# Altium schematic symbol library CPU_Library.SchLib: 4 symbols
Pins are listed as number, name and electrical type; pins without a type are passive.

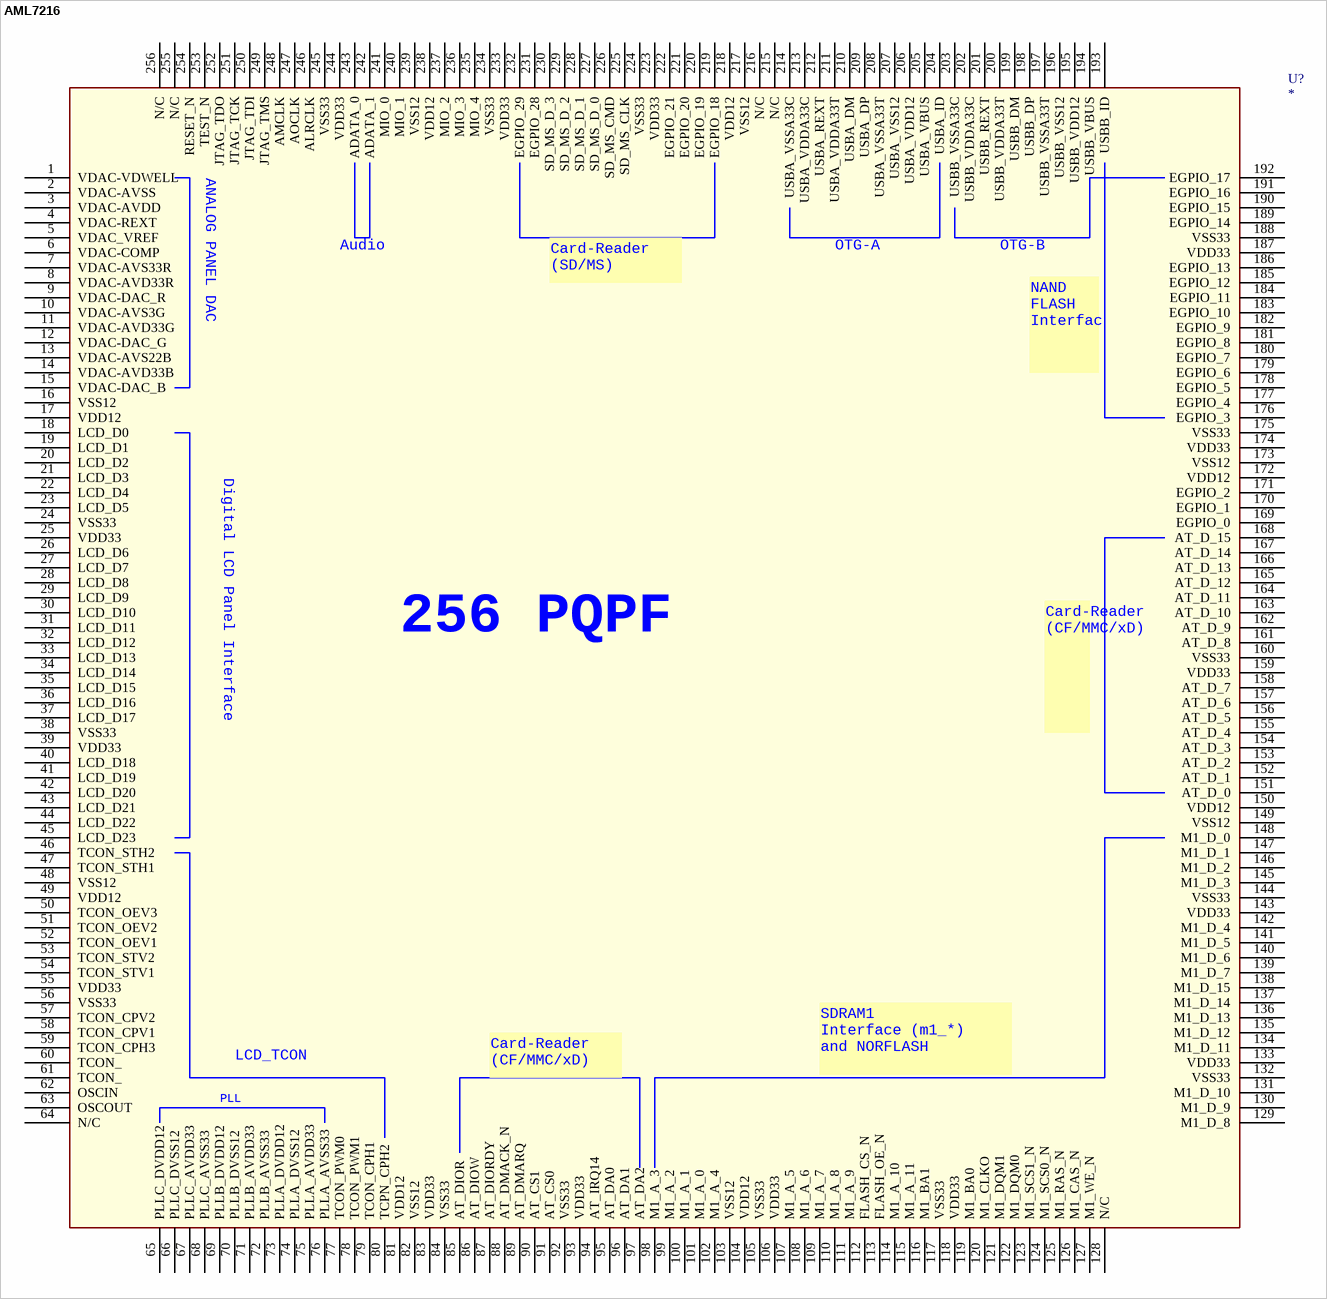
[diagram p0: symbol AML7216]

## AML7216
designator U?
pins: 1 VDAC-VDWELL, 2 VDAC-AVSS, 3 VDAC-AVDD, 4 VDAC-REXT, 5 VDAC_VREF, 6 VDAC-COMP, 7 VDAC-AVS33R, 8 VDAC-AVD33R, 9 VDAC-DAC_R, 10 VDAC-AVS3G, 11 VDAC-AVD33G, 12 VDAC-DAC_G, 13 VDAC-AVS22B, 14 VDAC-AVD33B, 15 VDAC-DAC_B, 16 VSS12 (power), 17 VDD12 (power), 18 LCD_D0, 19 LCD_D1, 20 LCD_D2, 21 LCD_D3, 22 LCD_D4, 23 LCD_D5, 24 VSS33 (power), 25 VDD33 (power), 26 LCD_D6, 27 LCD_D7, 28 LCD_D8, 29 LCD_D9, 30 LCD_D10, 31 LCD_D11, 32 LCD_D12, 33 LCD_D13, 34 LCD_D14, 35 LCD_D15, 36 LCD_D16, 37 LCD_D17, 38 VSS33 (power), 39 VDD33 (power), 40 LCD_D18, 41 LCD_D19, 42 LCD_D20, 43 LCD_D21, 44 LCD_D22, 45 LCD_D23, 46 TCON_STH2, 47 TCON_STH1, 48 VSS12 (power), 49 VDD12 (power), 50 TCON_OEV3, 51 TCON_OEV2, 52 TCON_OEV1, 53 TCON_STV2, 54 TCON_STV1, 55 VDD33 (power), 56 VSS33 (power), 57 TCON_CPV2, 58 TCON_CPV1, 59 TCON_CPH3, 60 TCON_ (power), 61 TCON_ (power), 62 OSCIN, 63 OSCOUT, 64 N/C (power), 65 PLLC_DVDD12, 66 PLLC_DVSS12, 67 PLLC_AVDD33, 68 PLLC_AVSS33, 69 PLLB_DVDD12, 70 PLLB_DVSS12, 71 PLLB_AVDD33, 72 PLLB_AVSS33, 73 PLLA_DVDD12, 74 PLLA_DVSS12, 75 PLLA_AVDD33, 76 PLLA_AVSS33, 77 TCON_PWM0, 78 TCON_PWM1, 79 TCON_CPH1, 80 TCPN_CPH2, 81 VDD12 (power), 82 VSS12 (power), 83 VDD33 (power), 84 VSS33 (power), 85 AT_DIOR, 86 AT_DIOW, 87 AT_DIORDY, 88 AT_DMACK_N, 89 AT_DMARQ, 90 AT_CS1, 91 AT_CS0, 92 VSS33 (power), 93 VDD33 (power), 94 AT_IRQ14, 95 AT_DA0, 96 AT_DA1, 97 AT_DA2, 98 M1_A_3, 99 M1_A_2, 100 M1_A_1, 101 M1_A_0, 102 M1_A_4, 103 VSS12 (power), 104 VDD12 (power), 105 VSS33 (power), 106 VDD33 (power), 107 M1_A_5, 108 M1_A_6, 109 M1_A_7, 110 M1_A_8, 111 M1_A_9, 112 FLASH_CS_N, 113 FLASH_OE_N, 114 M1_A_10, 115 M1_A_11, 116 M1_BA1, 117 VSS33 (power), 118 VDD33 (power), 119 M1_BA0, 120 M1_CLKO, 121 M1_DQM1, 122 M1_DQM0, 123 M1_SCS1_N, 124 M1_SCS0_N, 125 M1_RAS_N, 126 M1_CAS_N, 127 M1_WE_N, 128 N/C (power), 129 M1_D_8, 130 M1_D_9, 131 M1_D_10, 132 VSS33 (power), 133 VDD33 (power), 134 M1_D_11, 135 M1_D_12, 136 M1_D_13, 137 M1_D_14, 138 M1_D_15, 139 M1_D_7, 140 M1_D_6, 141 M1_D_5, 142 M1_D_4, 143 VDD33 (power), 144 VSS33 (power), 145 M1_D_3, 146 M1_D_2, 147 M1_D_1, 148 M1_D_0, 149 VSS12 (power), 150 VDD12 (power), 151 AT_D_0, 152 AT_D_1, 153 AT_D_2, 154 AT_D_3, 155 AT_D_4, 156 AT_D_5, 157 AT_D_6, 158 AT_D_7, 159 VDD33 (power), 160 VSS33 (power), 161 AT_D_8, 162 AT_D_9, 163 AT_D_10, 164 AT_D_11, 165 AT_D_12, 166 AT_D_13, 167 AT_D_14, 168 AT_D_15, 169 EGPIO_0, 170 EGPIO_1, 171 EGPIO_2, 172 VDD12 (power), 173 VSS12 (power), 174 VDD33 (power), 175 VSS33 (power), 176 EGPIO_3, 177 EGPIO_4, 178 EGPIO_5, 179 EGPIO_6, 180 EGPIO_7, 181 EGPIO_8, 182 EGPIO_9, 183 EGPIO_10, 184 EGPIO_11, 185 EGPIO_12, 186 EGPIO_13, 187 VDD33 (power), 188 VSS33 (power), 189 EGPIO_14, 190 EGPIO_15, 191 EGPIO_16, 192 EGPIO_17, 193 USBB_ID, 194 USBB_VBUS, 195 USBB_VDD12, 196 USBB_VSS12, 197 USBB_VSSA33T, 198 USBB_DP, 199 USBB_DM, 200 USBB_VDDA33T, 201 USBB_REXT, 202 USBB_VDDA33C, 203 USBB_VSSA33C, 204 USBA_ID, 205 USBA_VBUS, 206 USBA_VDD12, 207 USBA_VSS12, 208 USBA_VSSA33T, 209 USBA_DP, 210 USBA_DM, 211 USBA_VDDA33T, 212 USBA_REXT, 213 USBA_VDDA33C, 214 USBA_VSSA33C, 215 N/C (power), 216 N/C (power), 217 VSS12 (power), 218 VDD12 (power), 219 EGPIO_18, 220 EGPIO_19, 221 EGPIO_20, 222 EGPIO_21, 223 VDD33 (power), 224 VSS33 (power), 225 SD_MS_CLK, 226 SD_MS_CMD, 227 SD_MS_D_0, 228 SD_MS_D_1, 229 SD_MS_D_2, 230 SD_MS_D_3, 231 EGPIO_28, 232 EGPIO_29, 233 VDD33 (power), 234 VSS33 (power), 235 MIO_4, 236 MIO_3, 237 MIO_2, 238 VDD12 (power), 239 VSS12 (power), 240 MIO_1, 241 MIO_0, 242 ADATA_1, 243 ADATA_0, 244 VDD33 (power), 245 VSS33 (power), 246 ALRCLK, 247 AOCLK, 248 AMCLK, 249 JTAG_TMS, 250 JTAG_TDI, 251 JTAG_TCK, 252 JTAG_TDO, 253 TEST_N, 254 RESET_N, 255 N/C (power), 256 N/C (power)
text: ANALOG PANEL DAC; Card-Reader / (SD/MS); Audio; OTG-A; OTG-B; NAND / FLASH / Interfac; Digital LCD Panel Interface; Card-Reader / (CF/MMC/xD); 256 PQPF; SDRAM1 / Interface (m1_*) / and NORFLASH; LCD_TCON; PLL

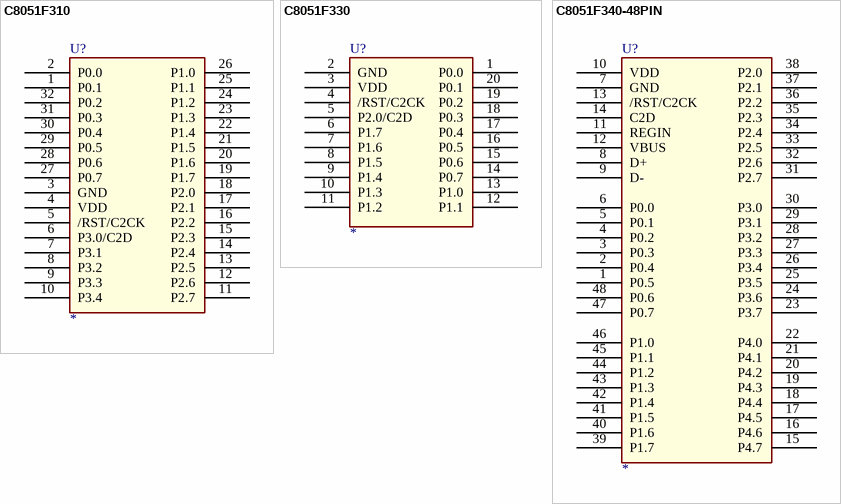
[diagram p1: symbols C8051F310 to C8051F340-48PIN]

## C8051F310
designator U?
footprint LQFP-32
pins: 1 P0.1, 2 P0.0, 3 GND, 4 VDD, 5 /RST/C2CK, 6 P3.0/C2D, 7 P3.1, 8 P3.2, 9 P3.3, 10 P3.4, 11 P2.7, 12 P2.6, 13 P2.5, 14 P2.4, 15 P2.3, 16 P2.2, 17 P2.1, 18 P2.0, 19 P1.7, 20 P1.6, 21 P1.5, 22 P1.4, 23 P1.3, 24 P1.2, 25 P1.1, 26 P1.0, 27 P0.7, 28 P0.6, 29 P0.5, 30 P0.4, 31 P0.3, 32 P0.2

## C8051F330
designator U?
footprint C8051F330
pins: 1 P0.0, 2 GND (power), 3 VDD (power), 4 /RST/C2CK (power), 5 P2.0/C2D, 6 P1.7, 7 P1.6, 8 P1.5, 9 P1.4, 10 P1.3, 11 P1.2, 12 P1.1, 13 P1.0, 14 P0.7, 15 P0.6, 16 P0.5, 17 P0.4, 18 P0.3, 19 P0.2, 20 P0.1

## C8051F340-48PIN
designator U?
pins: 1 P0.5, 2 P0.4, 3 P0.3, 4 P0.2, 5 P0.1, 6 P0.0, 7 GND (power), 8 D+, 9 D-, 10 VDD (power), 11 REGIN (power), 12 VBUS (power), 13 /RST/C2CK, 14 C2D, 15 P4.7, 16 P4.6, 17 P4.5, 18 P4.4, 19 P4.3, 20 P4.2, 21 P4.1, 22 P4.0, 23 P3.7, 24 P3.6, 25 P3.5, 26 P3.4, 27 P3.3, 28 P3.2, 29 P3.1, 30 P3.0, 31 P2.7, 32 P2.6, 33 P2.5, 34 P2.4, 35 P2.3, 36 P2.2, 37 P2.1, 38 P2.0, 39 P1.7, 40 P1.6, 41 P1.5, 42 P1.4, 43 P1.3, 44 P1.2, 45 P1.1, 46 P1.0, 47 P0.7, 48 P0.6